# Altium footprint library ee_453_yourname.PcbLib: 22 footprints (part 2 of 2)
Each footprint in its own frame and in the unit in brackets; x right, y up, seen from the top. Pads: shape width x height; smd on the part's side, far side on the other; paste and mask are expansions set on the pad; w line width, h text height; cw(c..) or ccw(c..) is an arc to the next point about the centre after c.
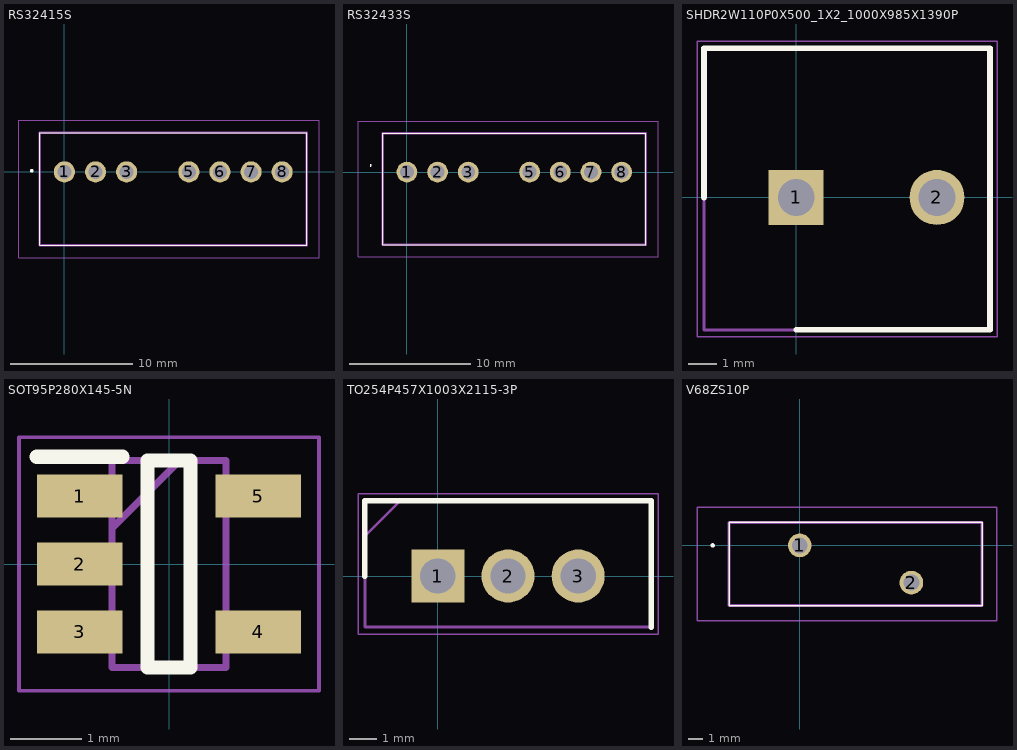
[diagram p1: the footprints below, top view; thin cyan lines are the x and y axes]

## RS32415S [mm]
pads (7):
  round 1.725 hole 1.15: 1(0,0) 2(2.54,0) 3(5.08,0) 5(10.16,0) 6(12.7,0) 7(15.24,0) 8(17.78,0)
Top Overlay:
  lines w0.1: -2.01,-6 -2.01,3.2 19.79,3.2 19.79,-6 -2.01,-6
  lines w0.2: -2.71,0.1 ccw(c-2.66,0.1) -2.61,0.1 ccw(c-2.66,0.1) -2.71,0.1
Mechanical 13:
  lines w0.2: -2.01,-6 -2.01,3.2 19.79,3.2 19.79,-6 -2.01,-6
Mechanical 15:
  lines w0.1: -3.71,-7 -3.71,4.2 20.79,4.2 20.79,-7 -3.71,-7
3D body "RS3-2415S.stp": height 11.45, standoff -5, extent -2.01,-6 19.79,3.2

## RS32433S [mm]
pads (7):
  round 1.725 hole 1.15: 1(0,0) 2(2.54,0) 3(5.08,0) 5(10.16,0) 6(12.7,0) 7(15.24,0) 8(17.78,0)
Top Overlay:
  lines w0.1: -3,0.5 cw(c-3,0.55) -3,0.6 cw(c-3,0.55) -3,0.5 ; -2.01,-6 -2.01,3.2 19.79,3.2 19.79,-6 -2.01,-6
Mechanical 13:
  lines w0.2: -2.01,-6 -2.01,3.2 19.79,3.2 19.79,-6 -2.01,-6
Mechanical 15:
  lines w0.1: -4.05,-7 -4.05,4.2 20.79,4.2 20.79,-7 -4.05,-7
3D body "RS3-243.3S.stp": height 11.45, standoff -5, extent -2.01,-6 19.79,3.2

## SHDR2W110P0X500_1X2_1000X985X1390P [mm]
pads (2):
  rect 1.95x1.95 hole 1.3: 1(0,0)
  round 1.95 hole 1.3: 2(5,0)
Top Overlay:
  lines w0.2: -3.27,0 -3.27,5.3 6.88,5.3 6.88,-4.7 0,-4.7
Mechanical 13:
  lines w0.1: -3.27,-4.7 6.88,-4.7 6.88,5.3 -3.27,5.3 -3.27,-4.7
Mechanical 15:
  lines w0.05: -3.52,-4.95 7.13,-4.95 7.13,5.55 -3.52,5.55 -3.52,-4.95
3D body "1985881.stp": height 0, standoff -10.74, extent -9.264,-3.5 0.536,13.8

## SOT95P280X145-5N [mm]
pads (5):
  rect 1.2x0.6 smd: 1(-1.25,0.95) 2(-1.25,0) 3(-1.25,-0.95) 4(1.25,-0.95) 5(1.25,0.95)
Top Overlay:
  lines w0.2: -1.85,1.5 -0.65,1.5 ; -0.3,-1.45 -0.3,1.45 0.3,1.45 0.3,-1.45 -0.3,-1.45
Mechanical 13:
  lines w0.1: -0.8,0.5 0.15,1.45 ; -0.8,-1.45 -0.8,1.45 0.8,1.45 0.8,-1.45 -0.8,-1.45
Mechanical 15:
  lines w0.05: -2.1,-1.775 -2.1,1.775 2.1,1.775 2.1,-1.775 -2.1,-1.775
3D body "INA194AIDBVR.stp": height 1.45, standoff 0, extent -1.4,-1.45 1.4,1.45

## TO254P457X1003X2115-3P [mm]
pads (3):
  rect 1.92x1.92 hole 1.28: 1(0,0)
  round 1.92 hole 1.28: 2(2.54,0) 3(5.08,0)
Top Overlay:
  lines w0.2: -2.64,0 -2.64,2.72 7.72,2.72 7.72,-1.85
Mechanical 13:
  lines w0.1: -2.64,1.45 -1.37,2.72 ; -2.64,-1.85 -2.64,2.72 7.72,2.72 7.72,-1.85 -2.64,-1.85
Mechanical 15:
  lines w0.05: -2.89,-2.1 -2.89,2.97 7.97,2.97 7.97,-2.1 -2.89,-2.1
3D body "IPP023N10N5.stp": height 20.18, standoff -17.96, extent -2.475,-1.85 7.555,2.72

## V68ZS10P [mm]
pads (2):
  round 1.59 hole 1.06: 1(0,0) 2(7.5,-2.5)
Top Overlay:
  lines w0.1: -4.75,-4.05 12.25,-4.05 12.25,1.55 -4.75,1.55 -4.75,-4.05
  lines w0.2: -5.9,0 ccw(c-5.85,0) -5.8,0 ; -5.9,0 cw(c-5.85,0) -5.8,0 ; -5.9,0 ccw(c-5.85,0) -5.8,0
Mechanical 13:
  lines w0.2: -4.75,-4.05 12.25,-4.05 12.25,1.55 -4.75,1.55 -4.75,-4.05
Mechanical 15:
  lines w0.1: -6.9,-5.05 13.25,-5.05 13.25,2.55 -6.9,2.55 -6.9,-5.05
3D body "V68ZS10P.stp": height 20.1, standoff -5, extent -4.75,-4.05 12.25,1.55